# Altium footprint library apollo.PcbLib: 245 footprints (part 14 of 16)
Each footprint in its own frame and in the unit in brackets; x right, y up, seen from the top. Pads: shape width x height; smd on the part's side, far side on the other; paste and mask are expansions set on the pad; w line width, h text height; cw(c..) or ccw(c..) is an arc to the next point about the centre after c.
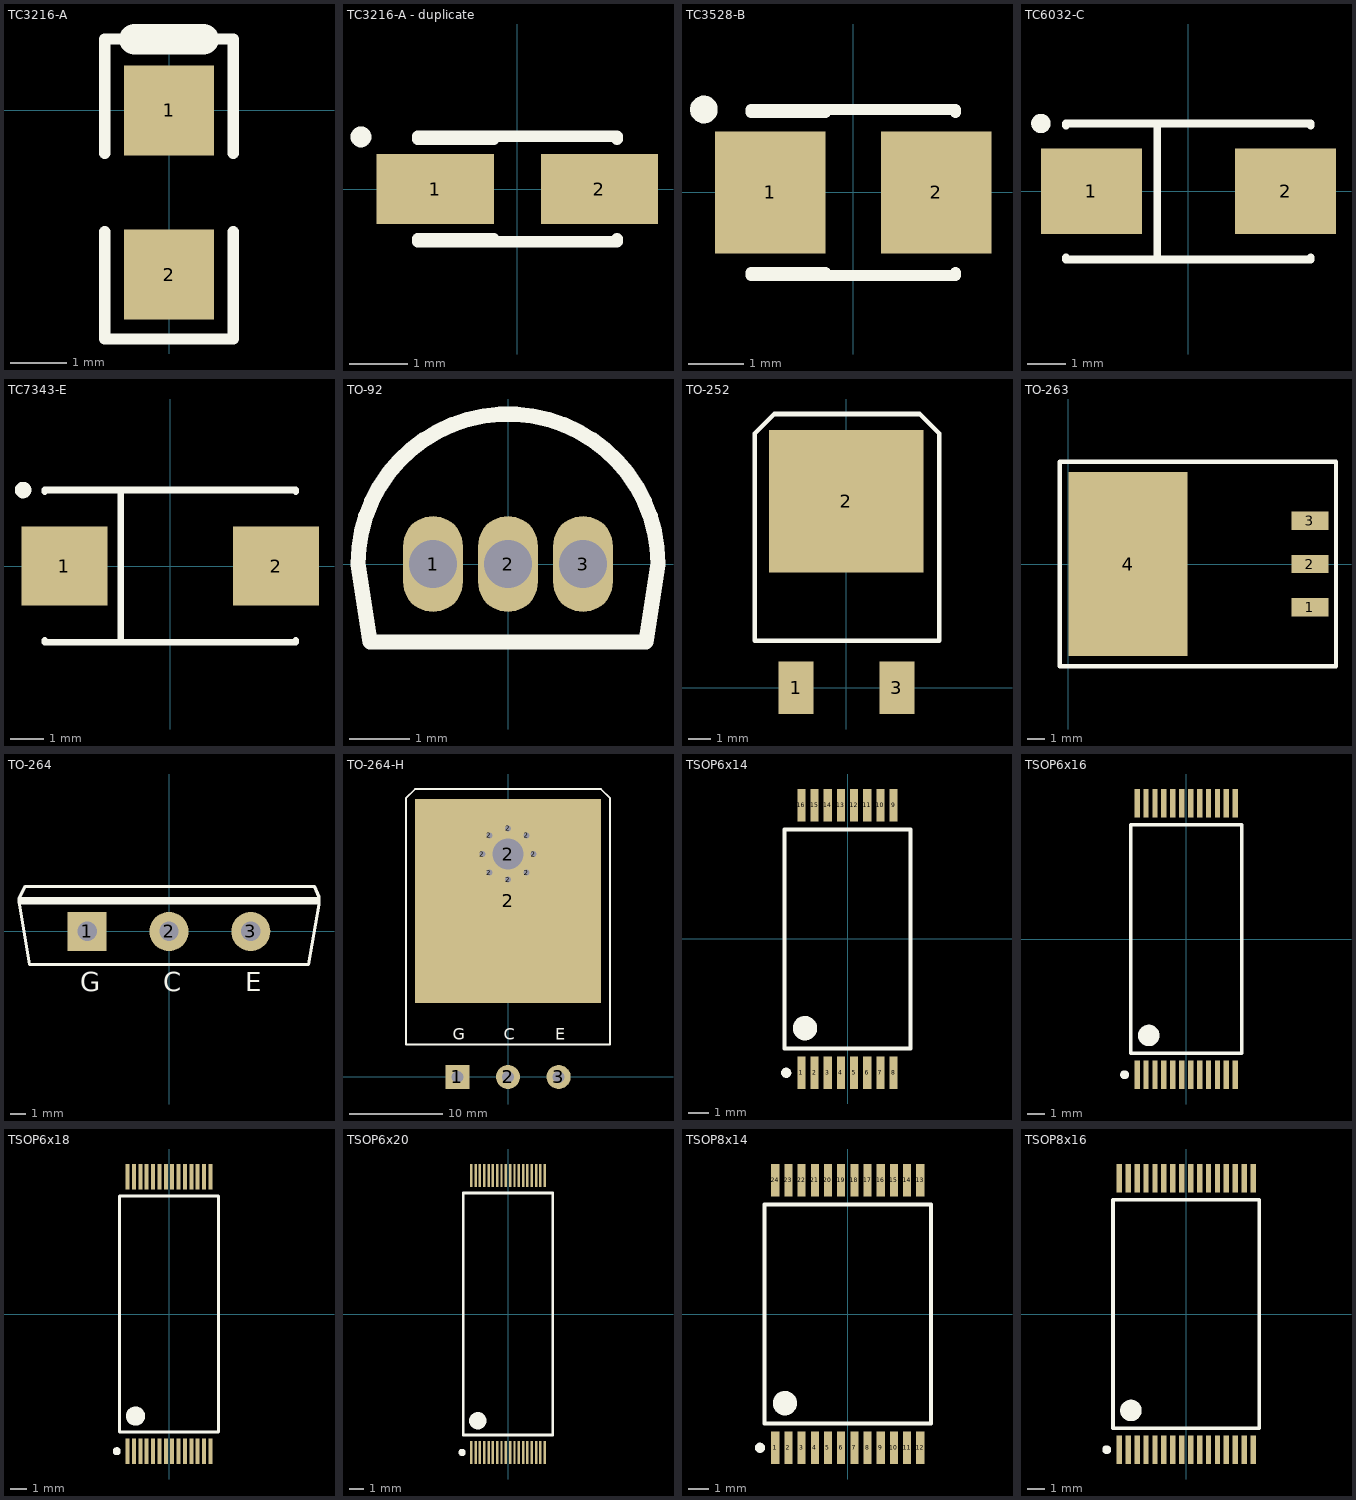
[diagram p13: the footprints below, top view; thin cyan lines are the x and y axes]

## TC3216-A [mm] "钽电容_A"
height 1.6
pads (2):
  rect 1.6x1.6 smd: 1(0,0) 2(0,-2.921)
Top Overlay:
  lines w0.2: -1.143,-2.159 -1.143,-4.064 1.143,-4.064 1.143,-2.159 ; -1.143,-0.762 -1.143,1.27 1.143,1.27 1.143,-0.762
  lines w0.559: -0.61,1.27 0.61,1.27

## TC3216-A - duplicate [mm] "Capacitor, SM Tantalum; Body 3.2 x 1.6 mm (LxW typ)"
height 2.2
pads (2):
  rect 2x1.2 smd: 1(-1.4,0) 2(1.4,0)
Top Overlay:
  circle w0.254: c-2.667,0.889 r0.051
  lines w0.2: -1.7,-0.9 1.7,-0.9 1.7,-0.85 ; -1.7,-0.85 -0.4,-0.85 ; -1.7,0.85 -0.4,0.85 ; -1.7,0.9 1.7,0.9 1.7,0.85

## TC3528-B [mm] "Capacitor, SM Tantalum; Body 3.5 x 2.8 mm (LxW typ)"
height 2.5
pads (2):
  rect 2x2.2 smd: 1(-1.5,0) 2(1.5,0)
Top Overlay:
  circle w0.25: c-2.7,1.5 r0.125
  lines w0.2: -1.85,-1.5 1.85,-1.5 1.85,-1.45 ; -1.85,-1.45 -0.5,-1.45 ; -1.85,1.45 -0.5,1.45 ; -1.85,1.5 1.85,1.5 1.85,1.45

## TC6032-C [mm] "Capacitor, SM Tantalum; Body 6.0 x 3.2 mm (LxW typ)"
height 3.4
pads (2):
  rect 2.6x2.2 smd: 1(-2.5,0) 2(2.5,0)
Top Overlay:
  circle w0.25: c-3.8,1.75 r0.125
  lines w0.2: -3.15,-1.7 -3.15,-1.75 3.15,-1.75 3.15,-1.7 ; -3.15,1.7 -3.15,1.75 3.15,1.75 3.15,1.7 ; -0.8,-1.75 -0.8,1.75

## TC7343-E [mm] "Capacitor, SM Tantalum; Body 7.3 x 4.3 mm (LxW typ)"
height 3.7
pads (2):
  rect 2.6x2.4 smd: 1(-3.2,0) 2(3.2,0)
Top Overlay:
  circle w0.25: c-4.45,2.3 r0.125
  lines w0.2: -3.8,-2.25 -3.8,-2.3 3.8,-2.3 3.8,-2.25 ; -3.8,2.25 -3.8,2.3 3.8,2.3 3.8,2.25 ; -1.5,-2.3 -1.5,2.3

## TO-92 [mm]
pads (3):
  oval 1x1.6 hole 0.8: 1(-1.25,0) 2(0,0) 3(1.25,0)
Top Overlay:
  lines w0.254: -2.5,0 cw(c0,0) 2.5,0 2.3,-1.3 -2.3,-1.3 -2.5,0
3D body: height 4, standoff -3, extent -2.3,-1.2 2.28,2.34

## TO-252 [mm] "DPAK"
pads (3):
  rect 1.524x2.28 smd: 1(-2.2,0) 3(2.2,0)
  rect 6.74x6.23 smd: 2(0,8.14)
Top Overlay:
  lines w0.203: -4,2.05 4.05,2.05 4.05,11.1 3.2,11.95 -3.15,11.95 -4,11.1 -4,2.05
3D body: height 2.2, standoff 0, extent -3.24,-0.5 3.26,10.5

## TO-263 [mm]
pads (4):
  rect 2.16x1.07 smd: 1(14.17,-2.54) 2(14.17,0) 3(14.17,2.54)
  rect 7x10.8 smd: 4(3.5,0)
Top Overlay:
  lines w0.254: -0.5,-6 -0.5,6 15.7,6 15.7,-6 -0.5,-6

## TO-264 [mm]
pads (3):
  rect 2.6x2.6 hole 1.3: 1(-5.45,0)
  round 2.6 hole 1.3: 2(0,0) 3(5.45,0)
Top Overlay:
  rectangle: -10,1.8 10,2.3
  lines w0.203: -10,1.9 -10,2.2 -9.6,3 9.7,3 10,2.3 10,1.8 9.3,-2.2 -9.3,-2.2 -10,2
  text "E" at 5.1,-4 h1.27
  text "C" at -0.4,-4 h1.27
  text "G" at -5.9,-4 h1.27

## TO-264-H [mm]
pads (13):
  rect 2.6x2.6 hole 1.3: 1(-5.45,0)
  round 1.016 hole 0.66: 2(-2.75,24) 2(-2,22) 2(-2,26) 2(0,21.25) 2(0,26.75) 2(2,22) 2(2,26) 2(2.75,24)
  round 2.6 hole 1.3: 2(0,0) 3(5.45,0)
  rect 20x22 smd: 2(0,18.95)
  round 7 hole 3.3: 2(0,24)
Top Overlay:
  lines w0.2: -11,3.5 -11,30 -10,31 10,31 11,30 11,3.5 -11,3.5
  text "E" at 5.1,4 h1.27
  text "C" at -0.45,4 h1.27
  text "G" at -5.95,4 h1.27
3D body: height 5, standoff -3, extent -10,-0.279 10,30.021

## TSOP6x14 [mm] "Shrink Small Outline; 16 Leads; Body Width 12.4 mm; Pitch 0.65 mm"
height 1.27
pads (16):
  rect 0.4x1.6 smd: 1(-2.275,-6.6) 2(-1.625,-6.6) 3(-0.975,-6.6) 4(-0.325,-6.6) 5(0.325,-6.6) 6(0.975,-6.6) 7(1.625,-6.6) 8(2.275,-6.6) 9(2.275,6.6) 10(1.625,6.6) 11(0.975,6.6) 12(0.325,6.6) 13(-0.325,6.6) 14(-0.975,6.6) 15(-1.625,6.6) 16(-2.275,6.6)
Top Overlay:
  circle w0.6: c-2.1,-4.4 r0.3
  circle w0.25: c-3.025,-6.6 r0.125
  lines w0.2: -3.1,-5.4 3.1,-5.4 3.1,5.4 -3.1,5.4 -3.1,-0.635 -3.1,-5.4

## TSOP6x16 [mm] "Shrink Small Outline; 24 Leads; Body Width 14.4 mm; Pitch 0.5 mm"
height 1.27
pads (24):
  rect 0.3x1.6 smd: 1(-2.75,-7.6) 2(-2.25,-7.6) 3(-1.75,-7.6) 4(-1.25,-7.6) 5(-0.75,-7.6) 6(-0.25,-7.6) 7(0.25,-7.6) 8(0.75,-7.6) 9(1.25,-7.6) 10(1.75,-7.6) 11(2.25,-7.6) 12(2.75,-7.6) 13(2.75,7.6) 14(2.25,7.6) 15(1.75,7.6) 16(1.25,7.6) 17(0.75,7.6) 18(0.25,7.6) 19(-0.25,7.6) 20(-0.75,7.6) 21(-1.25,7.6) 22(-1.75,7.6) 23(-2.25,7.6) 24(-2.75,7.6)
Top Overlay:
  circle w0.25: c-3.45,-7.6 r0.125
  circle w0.6: c-2.1,-5.4 r0.3
  lines w0.2: -3.1,-6.4 -3.1,-0.635 -3.1,6.4 3.1,6.4 3.1,-6.4 -3.1,-6.4

## TSOP6x18 [mm] "Shrink Small Outline; 28 Leads; Body Width 16.4 mm; Pitch 0.4 mm"
height 1.27
pads (28):
  rect 0.25x1.6 smd: 1(-2.6,-8.6) 2(-2.2,-8.6) 3(-1.8,-8.6) 4(-1.4,-8.6) 5(-1,-8.6) 6(-0.6,-8.6) 7(-0.2,-8.6) 8(0.2,-8.6) 9(0.6,-8.6) 10(1,-8.6) 11(1.4,-8.6) 12(1.8,-8.6) 13(2.2,-8.6) 14(2.6,-8.6) 15(2.6,8.6) 16(2.2,8.6) 17(1.8,8.6) 18(1.4,8.6) 19(1,8.6) 20(0.6,8.6) 21(0.2,8.6) 22(-0.2,8.6) 23(-0.6,8.6) 24(-1,8.6) 25(-1.4,8.6) 26(-1.8,8.6) 27(-2.2,8.6) 28(-2.6,8.6)
Top Overlay:
  circle w0.6: c-2.1,-6.4 r0.3
  circle w0.25: c-3.275,-8.6 r0.125
  lines w0.2: -3.1,-7.4 3.1,-7.4 3.1,7.4 -3.1,7.4 -3.1,-0.635 -3.1,-7.4

## TSOP6x20 [mm] "Shrink Small Outline; 36 Leads; Body Width 18.4 mm; Pitch 0.3 mm"
height 1.27
pads (36):
  rect 0.17x1.6 smd: 1(-2.55,-9.6) 2(-2.25,-9.6) 3(-1.95,-9.6) 4(-1.65,-9.6) 5(-1.35,-9.6) 6(-1.05,-9.6) 7(-0.75,-9.6) 8(-0.45,-9.6) 9(-0.15,-9.6) 10(0.15,-9.6) 11(0.45,-9.6) 12(0.75,-9.6) 13(1.05,-9.6) 14(1.35,-9.6) 15(1.65,-9.6) 16(1.95,-9.6) 17(2.25,-9.6) 18(2.55,-9.6) 19(2.55,9.6) 20(2.25,9.6) 21(1.95,9.6) 22(1.65,9.6) 23(1.35,9.6) 24(1.05,9.6) 25(0.75,9.6) 26(0.45,9.6) 27(0.15,9.6) 28(-0.15,9.6) 29(-0.45,9.6) 30(-0.75,9.6) 31(-1.05,9.6) 32(-1.35,9.6) 33(-1.65,9.6) 34(-1.95,9.6) 35(-2.25,9.6) 36(-2.55,9.6)
Top Overlay:
  circle w0.6: c-2.1,-7.4 r0.3
  circle w0.25: c-3.185,-9.6 r0.125
  lines w0.2: -3.1,-8.4 3.1,-8.4 3.1,8.4 -3.1,8.4 -3.1,-0.635 -3.1,-8.4

## TSOP8x14 [mm] "Shrink Small Outline; 24 Leads; Body Width 12.4 mm; Pitch 0.65 mm"
height 1.27
pads (24):
  rect 0.4x1.6 smd: 1(-3.575,-6.6) 2(-2.925,-6.6) 3(-2.275,-6.6) 4(-1.625,-6.6) 5(-0.975,-6.6) 6(-0.325,-6.6) 7(0.325,-6.6) 8(0.975,-6.6) 9(1.625,-6.6) 10(2.275,-6.6) 11(2.925,-6.6) 12(3.575,-6.6) 13(3.575,6.6) 14(2.925,6.6) 15(2.275,6.6) 16(1.625,6.6) 17(0.975,6.6) 18(0.325,6.6) 19(-0.325,6.6) 20(-0.975,6.6) 21(-1.625,6.6) 22(-2.275,6.6) 23(-2.925,6.6) 24(-3.575,6.6)
Top Overlay:
  circle w0.25: c-4.325,-6.6 r0.125
  circle w0.6: c-3.1,-4.4 r0.3
  lines w0.2: -4.1,-5.4 -4.1,-0.635 -4.1,5.4 4.1,5.4 4.1,-5.4 -4.1,-5.4

## TSOP8x16 [mm] "Shrink Small Outline; 32 Leads; Body Width 14.4 mm; Pitch 0.5 mm"
height 1.27
pads (32):
  rect 0.3x1.6 smd: 1(-3.75,-7.6) 2(-3.25,-7.6) 3(-2.75,-7.6) 4(-2.25,-7.6) 5(-1.75,-7.6) 6(-1.25,-7.6) 7(-0.75,-7.6) 8(-0.25,-7.6) 9(0.25,-7.6) 10(0.75,-7.6) 11(1.25,-7.6) 12(1.75,-7.6) 13(2.25,-7.6) 14(2.75,-7.6) 15(3.25,-7.6) 16(3.75,-7.6) 17(3.75,7.6) 18(3.25,7.6) 19(2.75,7.6) 20(2.25,7.6) 21(1.75,7.6) 22(1.25,7.6) 23(0.75,7.6) 24(0.25,7.6) 25(-0.25,7.6) 26(-0.75,7.6) 27(-1.25,7.6) 28(-1.75,7.6) 29(-2.25,7.6) 30(-2.75,7.6) 31(-3.25,7.6) 32(-3.75,7.6)
Top Overlay:
  circle w0.6: c-3.1,-5.4 r0.3
  circle w0.25: c-4.45,-7.6 r0.125
  lines w0.2: -4.1,-6.4 4.1,-6.4 4.1,6.4 -4.1,6.4 -4.1,-0.635 -4.1,-6.4